# Altium integrated library 19-217Y5C-AP1Q2-3T.IntLib: 1 symbol
Pins are listed as number, name and electrical type; pins without a type are passive.

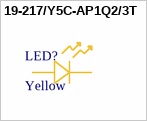
[diagram p0: symbol 19-217/Y5C-AP1Q2/3T]

## 19-217/Y5C-AP1Q2/3T
designator LED?, comment Yellow
Yellow 590nm LED Indication - Discrete 2V 0603 (1608 Metric); Manufacturer_Part_Number: 19-217/Y5C-AP1Q2/3T; Vendor: Everlight Electronics; SourceLibrary: Add_to_database_2021-02-25; Type: DEV; RefDes: RefDes; Colour: Yellow
footprint LED_19-217/GHC-YR1S2/3T_EVE
pins: 1, 2